# Altium schematic symbol library MonoLine.SCHLIB: 210 symbols (part 1 of 2)
Pins are listed as number, name and electrical type; pins without a type are passive.

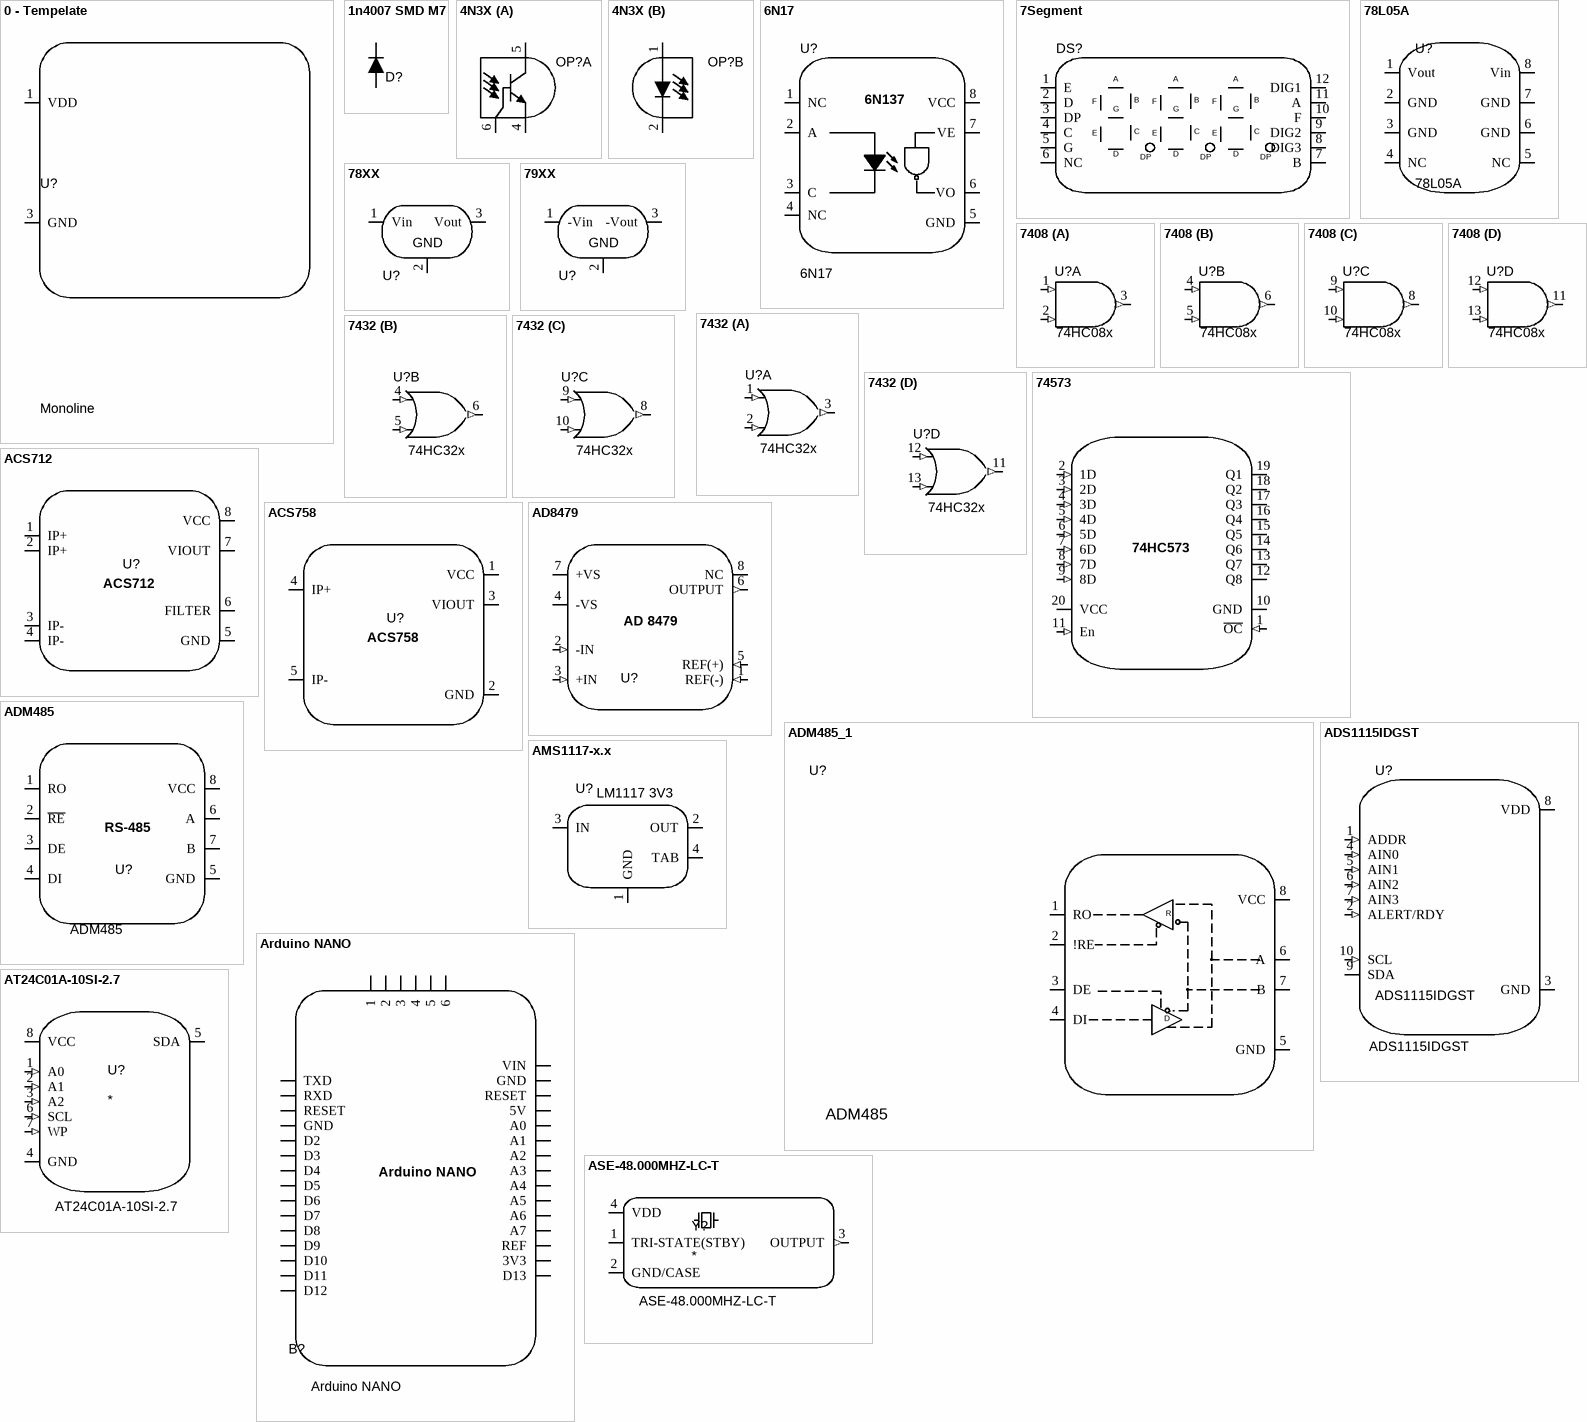
[diagram p0: symbols 0 - Tempelate to AT24C01A-10SI-2.7]

## 0 - Tempelate
designator U?, comment Monoline
MP: ADS1115IDGST; Designer: M Khosravi; Value: *; Price: None; Package: None; Availability: Unavailable
footprint Dip8
pins: 1 VDD (power), 3 GND (power)

## 1n4007 SMD M7
designator D?, comment 1n4007  (value not drawn)
Standard Rectifiers; Designer: M Khosravi
footprint DIOM4629X24N (Molded Diode, 2-Leads, Body 4/60x2/90mm, IPC Medium Density)
footprint SOD80, LL-34 (Diode, MiniMELF)
pins: 1, 2

## 4N3X
designator OP?  (value not drawn)
Optocoupler, Phototransistor Output, with Base Connection / 4N35-X, 4N36-X, 4N37-X, 4N38; ComponentLink2Description: DIP 4pin General Purpose
footprint DIP 6-N (DIP; 6 Leads; Row Spacing 7.62 mm; Pitch 2.54 mm)
part A pins: 4 E, 5 C, 6 B
part B pins: 1 A, 2 K

## 6N17
designator U?
MP: ADS1115IDGST; Value: *; Price: None; Package: None; Availability: Unavailable
pins: 1 NC, 2 A, 3 C, 4 NC, 5 GND, 6 VO, 7 VE, 8 VCC
text: 6N137

## 7Segment
designator DS?
4031BS_CA / 0.4Inch / 3Bit
footprint SN460561N (DS101)
pins: 1 E, 2 D, 3 DP, 4 C, 5 G, 6 NC, 7 B, 8 DIG3, 9 DIG2, 10 F, 11 A, 12 DIG1

## 78L05A
designator U?
footprint SOIC127P600X175-8N
pins: 1 Vout, 2 GND, 3 GND, 4 NC, 5 NC, 6 GND, 7 GND, 8 Vin

## 78XX
designator U?  (value not drawn)
footprint TO-220 AB WITH HEAT SINK (Epoxy meets UL94, V0)
footprint TO-220 AB (Epoxy meets UL94, V0)
footprint TO-220 AB S (Epoxy meets UL94, V0)
footprint TO-220 AB WITH HEAT SINK ASM
footprint TO-220 AB with heatsink ya25 (Epoxy meets UL94, V0-Design:Abbas Basereh)
pins: 1 Vin, 2 GND, 3 Vout
1 alternate drawing of the same symbol

## 79XX
designator U?  (value not drawn)
Linear Voltage Regulator 79XX
footprint TO-220 AB WITH HEAT SINK (Epoxy meets UL94, V0)
footprint TO-220 AB (Epoxy meets UL94, V0)
footprint TO-220 AB S (Epoxy meets UL94, V0)
footprint TO-220 AB WITH HEAT SINK ASM
footprint TO-220 AB with heatsink ya25 (Epoxy meets UL94, V0-Design:Abbas Basereh)
pins: 1 -Vin, 2 GND, 3 -Vout

## 7408
designator U?, comment 74HC08x
Quad 2-Input AND Gate; Temperature Range: -x°C to x°C; PartNumber: 74HC08x
footprint SOIC 14-3.9mm (SOIC, 14-Leads, Body 8.7x3.9mm, Pitch 1.27mm, IPC Medium Density)
footprint DIP_14 (DIP, pitch 2.54mm, 300mil Width)
pins on every part: 7 GND (power) hidden to GND, 14 VDD (power) hidden to VDD
part A pins: 1 A (in), 2 B (in), 3 Y (out)
part B pins: 4 A (in), 5 B (in), 6 Y (out)
part C pins: 8 Y (out), 9 A (in), 10 B (in)
part D pins: 11 Y (out), 12 A (in), 13 B (in)

## 7432
designator U?, comment 74HC32x
Quad 2-Input OR Gate; Temperature Range: -x°C to x°C; PartNumber: 74HC32x
footprint DIP_14 (DIP, pitch 2.54mm, 300mil Width)
footprint SOIC 14-3.9mm (SOIC, 14-Leads, Body 8.7x3.9mm, Pitch 1.27mm, IPC Medium Density)
pins on every part: 7 GND (power) hidden to GND, 14 VDD (power) hidden to VDD
part A pins: 1 A (in), 2 B (in), 3 Y (out)
part B pins: 4 A (in), 5 B (in), 6 Y (out)
part C pins: 8 Y (out), 9 A (in), 10 B (in)
part D pins: 11 Y (out), 12 A (in), 13 B (in)

## 74573
designator U?, comment 74HC573  (value not drawn)
OCTAL D-TYPE TRANSPARENT LCHtch; Temperature Range: -x°C to x°C; PartNumber: 74HC573
footprint DIP_20 (DIP, pitch 2.54mm, 300mil Width)
footprint TSSOP 20 (Shrink Small Outline; 20 Leads; Body Width 4.4 mm; Pitch 0.65 mm)
pins: 1 ~{OC} (in), 2 1D (in), 3 2D (in), 4 3D (in), 5 4D (in), 6 5D (in), 7 6D (in), 8 7D (in), 9 8D (in), 10 GND (hiz), 11 En (in), 12 Q8 (hiz), 13 Q7 (hiz), 14 Q6 (hiz), 15 Q5 (hiz), 16 Q4 (hiz), 17 Q3 (hiz), 18 Q2 (hiz), 19 Q1 (hiz), 20 VCC (hiz)

## ACS712
designator U?, comment ACS 712  (value not drawn)
Hall Effect_Current Sensor; Temperature Range: -x°C to x°C; PartNumber: ACS 712
footprint SOIC8 (SOIC, 8-Leads, Body 4.9x3.9mm, Pitch 1.27mm, IPC Medium Density)
pins: 1 IP+, 2 IP+, 3 IP-, 4 IP-, 5 GND, 6 FILTER, 7 VIOUT, 8 VCC

## ACS758
designator U?
Hall Effect_Current Sensor; Temperature Range: -x°C to x°C
footprint ACS758
pins: 1 VCC, 2 GND, 3 VIOUT, 4 IP+, 5 IP-

## AD8479
designator U?, comment AD 8479  (value not drawn)
Integrated Circuit; Temperature Range: -x°C to x°C; PartNumber: AD 8479
footprint SOIC8 (SOIC, 8-Leads, Body 4.9x3.9mm, Pitch 1.27mm, IPC Medium Density)
pins: 1 REF(-) (in), 2 -IN (in), 3 +IN (in), 4 -VS (power), 5 REF(+) (in), 6 OUTPUT (out), 7 +VS (power), 8 NC

## ADM485
designator U?
Low-Power, Slew-Rate-Limited RS-485/RS-422 Transceiver; Temperature Range: -x°C to x°C; PartNumber: ADM485
footprint DIP8
footprint SOIC8 (SOIC, 8-Leads, Body 4.9x3.9mm, Pitch 1.27mm, IPC Medium Density)
pins: 1 RO, 2 ~{RE}, 3 DE, 4 DI, 5 GND, 6 A, 7 B, 8 VCC
text: RS-485

## ADM485_1
designator U?, comment ADM485
RS-485/RS-422 Transceivers; ComponentAuthor: M khosravi; ComponentLink1Description: Datasheet; ComponentLink1URL: http://pdfserv.maxim-ic.com/en/ds/MAX220-MAX249.pdf
footprint DIP16
footprint SO16 (SOIC, 16-Leads, Body 9.9x3.9mm, Pitch 1.27mm, IPC Medium Density)
footprint NSO16_L (SOIC, 16-Leads, Body 9.9x3.9mm, Pitch 1.27mm, IPC High Density)
footprint NSO16_M (SOIC, 16-Leads, Body 9.9x3.9mm, Pitch 1.27mm, IPC Low Density)
footprint NSO16_N (SOIC, 16-Leads, Body 9.9x3.9mm, Pitch 1.27mm, IPC Medium Density)
pins: 1 RO, 2 !RE, 3 DE, 4 DI, 5 GND (power), 6 A, 7 B, 8 VCC (power)
text: R; D

## ADS1115IDGST
designator U?
MP: ADS1115IDGST; Price: None; Package: None; Availability: Unavailable; Value: ADS1115IDGST
footprint SOP50P490X110-10N
pins: 1 ADDR (in), 2 ALERT/RDY (in), 3 GND (power), 4 AIN0 (in), 5 AIN1 (in), 6 AIN2 (in), 7 AIN3 (in), 8 VDD (power), 9 SDA (io), 10 SCL (in)

## AMS1117-x.x
designator U?, comment LM1117 3V3
x.x Volt, 800mA Low-Dropout Linear Regulator, 4-pin SOT-223; Designer: M Khosravi; Value: LM1117 3V3
footprint SOT223 (SOT223, 4-Leads, Body 6.5x3.5mm, Pitch 2.30mm-Designer Abbas Basereh)
footprint SOT223_L (SOT223, 4-Leads, Body 6.5x3.5mm, Pitch 2.3mm, Lead Span 7mm, IPC High Density)
footprint SOT223_M (SOT223, 4-Leads, Body 6.5x3.5mm, Pitch 2.3mm, Lead Span 7mm, IPC Low Density)
footprint SOT223_N (SOT223, 4-Leads, Body 6.5x3.5mm, Pitch 2.3mm, Lead Span 7mm, IPC Medium Density)
pins: 1 GND (power), 2 OUT (power), 3 IN (power), 4 TAB (power)

## Arduino NANO
designator B?
Embeded Board; Temperature Range: -x°C to x°C; PartNumber: Arduino NANO
footprint Arduino NANO
pins: 1, 2, 3, 3V3, 4, 5, 5V, 6, A0, A1, A2, A3, A4, A5, A6, A7, D2, D3, D4, D5, D6, D7, D8, D9, D10, D11, D12, D13, GND, GND1 GND, REF, RST RESET, RST1 RESET, RXD, TXD, VIN

## ASE-48.000MHZ-LC-T
designator Y?  value ASE-48.000MHZ-LC-T
Price: None; Package: None; Availability: Unavailable; MP: ASE-48.000MHZ-LC-T; PartNumber: ASE-48.000MHZ-LC-T
footprint XTAL_ASE-48.000MHZ-LC-T
pins: 1 TRI-STATE(STBY), 2 GND/CASE (power), 3 OUTPUT (out), 4 VDD (power)

## AT24C01A-10SI-2.7
designator U?  value AT24C01A-10SI-2.7
Two-wire Serial EEPROM; Package: None; Price: None; MP: AT24C01A-10SI-2.7; Availability: Unavailable
footprint SOIC127P600X175-8N
pins: 1 A0 (in), 2 A1 (in), 3 A2 (in), 4 GND, 5 SDA (io), 6 SCL (in), 7 WP (in), 8 VCC (power)

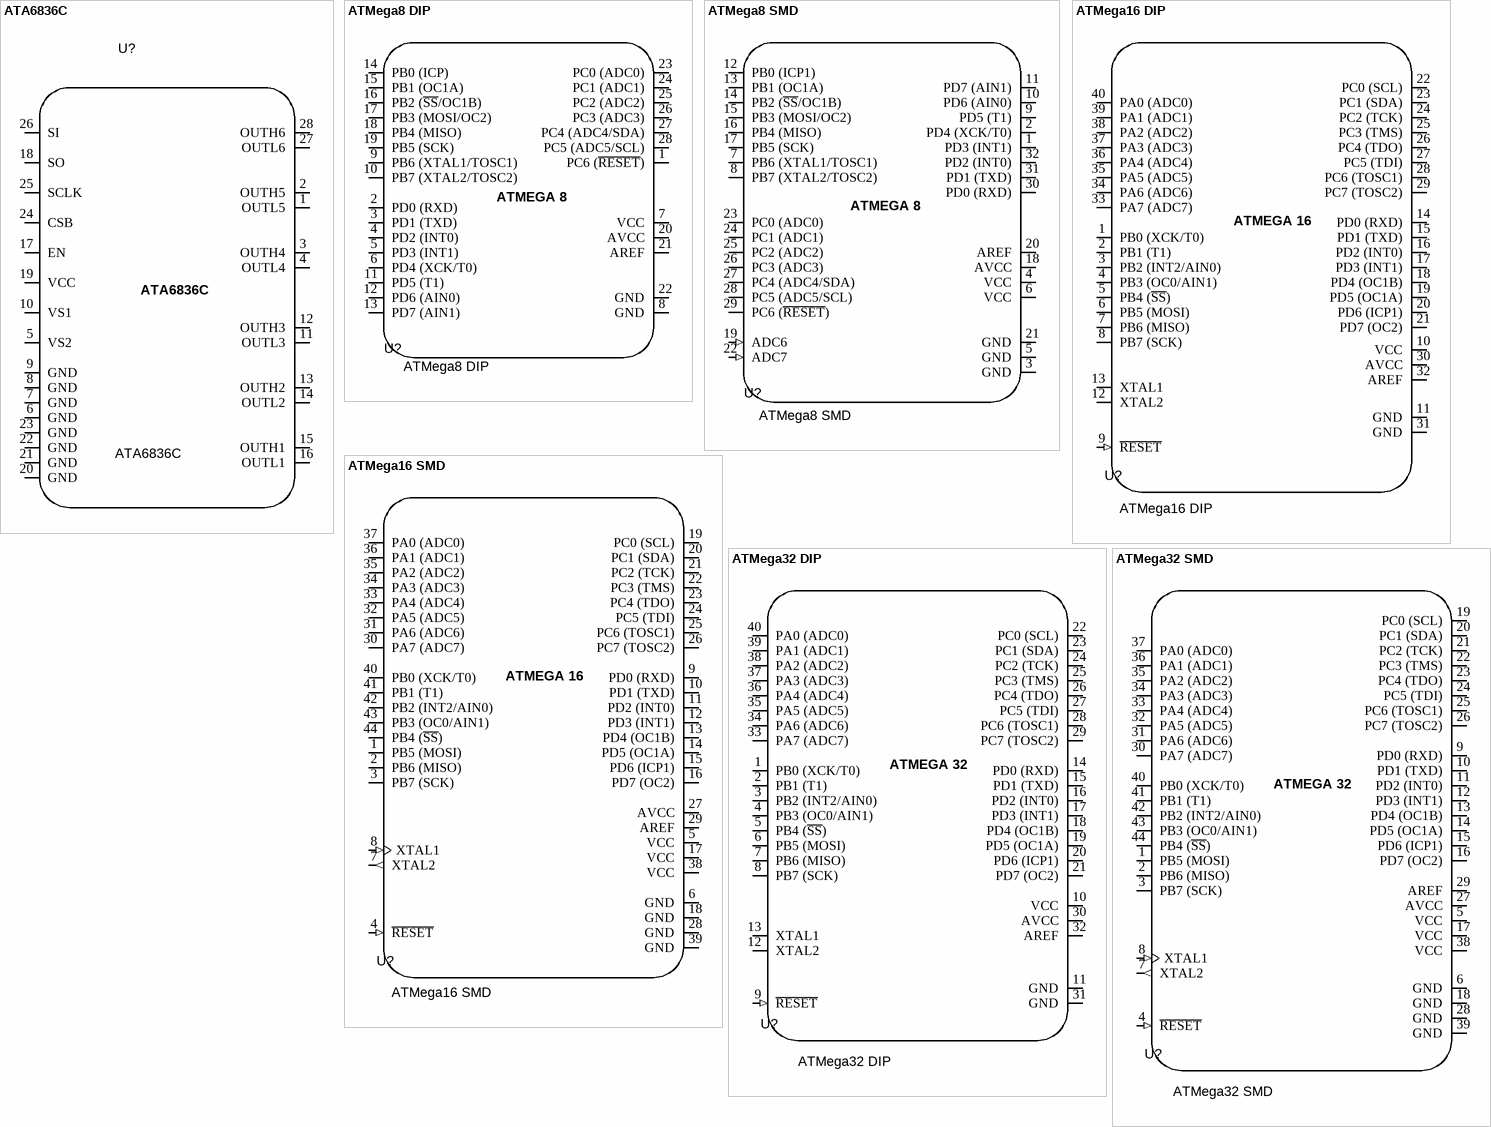
[diagram p1: symbols ATA6836C to ATMega32 SMD]

## ATA6836C
designator U?
Hex Half-bridge Driver with Serial Input Control; Specification: ATA6836C Hex Half-bridge Driver with Serial Input Control; SMD Code: ATA6836C; Temperature Range: -40°C to 150°C; Package: SOIC 28-7.5MM; PartNumber: ATA6836C
footprint SOIC 28-7.5MM (SOIC, 28-Leads, Body 17.9x7.5mm, Pitch 1.27mm, IPC Medium Density)
pins: 1 OUTL5, 2 OUTH5, 3 OUTH4, 4 OUTL4, 5 VS2, 6 GND, 7 GND, 8 GND, 9 GND, 10 VS1, 11 OUTL3, 12 OUTH3, 13 OUTH2, 14 OUTL2, 15 OUTH1, 16 OUTL1, 17 EN, 18 SO, 19 VCC, 20 GND, 21 GND, 22 GND, 23 GND, 24 CSB, 25 SCLK, 26 SI, 27 OUTL6, 28 OUTH6

## ATMega8 DIP
designator U?
8-bit AVR Microcontroller, 8KB Flash, 512 Bytes EEPROM, 1KB SRAM, 28-pin PDIP, Industrial Grade (-40°C to 85°C); Temperature Range: -x°C to x°C; PartNumber: ATMega8 DIP
footprint DIP 28-N (28-Pin Ceramic Dual In-Line Package (CerDIP))
pins: 1 PC6 (~{RESET}) (io), 2 PD0 (RXD) (io), 3 PD1 (TXD) (io), 4 PD2 (INT0) (io), 5 PD3 (INT1) (io), 6 PD4 (XCK/T0) (io), 7 VCC (power), 8 GND (power), 9 PB6 (XTAL1/TOSC1) (io), 10 PB7 (XTAL2/TOSC2) (io), 11 PD5 (T1) (io), 12 PD6 (AIN0) (io), 13 PD7 (AIN1) (io), 14 PB0 (ICP) (io), 15 PB1 (OC1A) (io), 16 PB2 (~{SS}/OC1B) (io), 17 PB3 (MOSI/OC2) (io), 18 PB4 (MISO) (io), 19 PB5 (SCK) (io), 20 AVCC (power), 21 AREF, 22 GND (power), 23 PC0 (ADC0) (io), 24 PC1 (ADC1) (io), 25 PC2 (ADC2) (io), 26 PC3 (ADC3) (io), 27 PC4 (ADC4/SDA) (io), 28 PC5 (ADC5/SCL) (io)
text: ATMEGA 8

## ATMega8 SMD
designator U?
8-bit AVR Microcontroller, 8KB Flash, 512 Bytes EEPROM, 1KB SRAM, 32-pin TQFP, Industrial Grade (-40°C to 85°C); Temperature Range: -x°C to x°C; PartNumber: ATMega8 SMD
footprint TQFP 32-N (32-Pin Thin Quad Flat Pack 0.8 mm Pitch, IPC Medium Density)
pins: 1 PD3 (INT1) (io), 2 PD4 (XCK/T0) (io), 3 GND (power), 4 VCC (power), 5 GND (power), 6 VCC (power), 7 PB6 (XTAL1/TOSC1) (io), 8 PB7 (XTAL2/TOSC2) (io), 9 PD5 (T1) (io), 10 PD6 (AIN0) (io), 11 PD7 (AIN1) (io), 12 PB0 (ICP1) (io), 13 PB1 (OC1A) (io), 14 PB2 (~{SS}/OC1B) (io), 15 PB3 (MOSI/OC2) (io), 16 PB4 (MISO) (io), 17 PB5 (SCK) (io), 18 AVCC (power), 19 ADC6 (in), 20 AREF (power), 21 GND (power), 22 ADC7 (in), 23 PC0 (ADC0) (io), 24 PC1 (ADC1) (io), 25 PC2 (ADC2) (io), 26 PC3 (ADC3) (io), 27 PC4 (ADC4/SDA) (io), 28 PC5 (ADC5/SCL) (io), 29 PC6 (~{RESET}) (io), 30 PD0 (RXD) (io), 31 PD1 (TXD) (io), 32 PD2 (INT0) (io)
text: ATMEGA 8

## ATMega16 DIP
designator U?
8-bit AVR Microcontroller, 16KB Flash, 512 Bytes EEPROM, 1KB SRAM, 40-pin PDIP, Industrial Grade (-40°C to 85°C); Temperature Range: -x°C to x°C; PartNumber: ATMega16 DIP
footprint DIP 40- Microchip
pins: 1 PB0 (XCK/T0) (io), 2 PB1 (T1) (io), 3 PB2 (INT2/AIN0) (io), 4 PB3 (OC0/AIN1) (io), 5 PB4 (~{SS}) (io), 6 PB5 (MOSI) (io), 7 PB6 (MISO) (io), 8 PB7 (SCK) (io), 9 ~{RESET} (in), 10 VCC (power), 11 GND (power), 12 XTAL2, 13 XTAL1, 14 PD0 (RXD) (io), 15 PD1 (TXD) (io), 16 PD2 (INT0) (io), 17 PD3 (INT1) (io), 18 PD4 (OC1B) (io), 19 PD5 (OC1A) (io), 20 PD6 (ICP1) (io), 21 PD7 (OC2) (io), 22 PC0 (SCL) (io), 23 PC1 (SDA) (io), 24 PC2 (TCK) (io), 25 PC3 (TMS) (io), 26 PC4 (TDO) (io), 27 PC5 (TDI) (io), 28 PC6 (TOSC1) (io), 29 PC7 (TOSC2) (io), 30 AVCC (power), 31 GND (power), 32 AREF (power), 33 PA7 (ADC7) (io), 34 PA6 (ADC6) (io), 35 PA5 (ADC5) (io), 36 PA4 (ADC4) (io), 37 PA3 (ADC3) (io), 38 PA2 (ADC2) (io), 39 PA1 (ADC1) (io), 40 PA0 (ADC0) (io)
text: ATMEGA 16

## ATMega16 SMD
designator U?
8-bit AVR Microcontroller, 16KB Flash, 512 Bytes EEPROM, 1KB SRAM, 44-pin TQFP, Industrial Grade (-40°C to 85°C); Temperature Range: -x°C to x°C; PartNumber: ATMega16 SMD
footprint TQFP 44-N (44-Pin Thin Quad Flat Pack 0.8 mm Pitch, IPC Medium Density)
pins: 1 PB5 (MOSI) (io), 2 PB6 (MISO) (io), 3 PB7 (SCK) (io), 4 ~{RESET} (in), 5 VCC (power), 6 GND (power), 7 XTAL2 (out), 8 XTAL1 (in), 9 PD0 (RXD) (io), 10 PD1 (TXD) (io), 11 PD2 (INT0) (io), 12 PD3 (INT1) (io), 13 PD4 (OC1B) (io), 14 PD5 (OC1A) (io), 15 PD6 (ICP1) (io), 16 PD7 (OC2) (io), 17 VCC (power), 18 GND (power), 19 PC0 (SCL) (io), 20 PC1 (SDA) (io), 21 PC2 (TCK) (io), 22 PC3 (TMS) (io), 23 PC4 (TDO) (io), 24 PC5 (TDI) (io), 25 PC6 (TOSC1) (io), 26 PC7 (TOSC2) (io), 27 AVCC (power), 28 GND (power), 29 AREF (power), 30 PA7 (ADC7) (io), 31 PA6 (ADC6) (io), 32 PA5 (ADC5) (io), 33 PA4 (ADC4) (io), 34 PA3 (ADC3) (io), 35 PA2 (ADC2) (io), 36 PA1 (ADC1) (io), 37 PA0 (ADC0) (io), 38 VCC (power), 39 GND (power), 40 PB0 (XCK/T0) (io), 41 PB1 (T1) (io), 42 PB2 (INT2/AIN0) (io), 43 PB3 (OC0/AIN1) (io), 44 PB4 (~{SS}) (io)
text: ATMEGA 16

## ATMega32 DIP
designator U?
8-bit AVR Microcontroller, 32KB Flash, 1KB EEPROM, 2KB SRAM, 40-pin PDIP, Industrial Grade (-40°C to 85°C); Temperature Range: -x°C to x°C; PartNumber: ATMega32 DIP
footprint DIP 40- Microchip
pins: 1 PB0 (XCK/T0) (io), 2 PB1 (T1) (io), 3 PB2 (INT2/AIN0) (io), 4 PB3 (OC0/AIN1) (io), 5 PB4 (~{SS}) (io), 6 PB5 (MOSI) (io), 7 PB6 (MISO) (io), 8 PB7 (SCK) (io), 9 ~{RESET} (in), 10 VCC (power), 11 GND (power), 12 XTAL2, 13 XTAL1, 14 PD0 (RXD) (io), 15 PD1 (TXD) (io), 16 PD2 (INT0) (io), 17 PD3 (INT1) (io), 18 PD4 (OC1B) (io), 19 PD5 (OC1A) (io), 20 PD6 (ICP1) (io), 21 PD7 (OC2) (io), 22 PC0 (SCL) (io), 23 PC1 (SDA) (io), 24 PC2 (TCK) (io), 25 PC3 (TMS) (io), 26 PC4 (TDO) (io), 27 PC5 (TDI) (io), 28 PC6 (TOSC1) (io), 29 PC7 (TOSC2) (io), 30 AVCC (power), 31 GND (power), 32 AREF (power), 33 PA7 (ADC7) (io), 34 PA6 (ADC6) (io), 35 PA5 (ADC5) (io), 36 PA4 (ADC4) (io), 37 PA3 (ADC3) (io), 38 PA2 (ADC2) (io), 39 PA1 (ADC1) (io), 40 PA0 (ADC0) (io)
text: ATMEGA 32

## ATMega32 SMD
designator U?
8-bit AVR Microcontroller, 32KB Flash, 1KB EEPROM, 2KB SRAM, 44-pin TQFP, Industrial Grade (-40°C to 85°C); Temperature Range: -x°C to x°C; PartNumber: ATMega32 SMD
footprint TQFP 44-N (44-Pin Thin Quad Flat Pack 0.8 mm Pitch, IPC Medium Density)
pins: 1 PB5 (MOSI) (io), 2 PB6 (MISO) (io), 3 PB7 (SCK) (io), 4 ~{RESET} (in), 5 VCC (power), 6 GND (power), 7 XTAL2 (out), 8 XTAL1 (in), 9 PD0 (RXD) (io), 10 PD1 (TXD) (io), 11 PD2 (INT0) (io), 12 PD3 (INT1) (io), 13 PD4 (OC1B) (io), 14 PD5 (OC1A) (io), 15 PD6 (ICP1) (io), 16 PD7 (OC2) (io), 17 VCC (power), 18 GND (power), 19 PC0 (SCL) (io), 20 PC1 (SDA) (io), 21 PC2 (TCK) (io), 22 PC3 (TMS) (io), 23 PC4 (TDO) (io), 24 PC5 (TDI) (io), 25 PC6 (TOSC1) (io), 26 PC7 (TOSC2) (io), 27 AVCC (power), 28 GND (power), 29 AREF (power), 30 PA7 (ADC7) (io), 31 PA6 (ADC6) (io), 32 PA5 (ADC5) (io), 33 PA4 (ADC4) (io), 34 PA3 (ADC3) (io), 35 PA2 (ADC2) (io), 36 PA1 (ADC1) (io), 37 PA0 (ADC0) (io), 38 VCC (power), 39 GND (power), 40 PB0 (XCK/T0) (io), 41 PB1 (T1) (io), 42 PB2 (INT2/AIN0) (io), 43 PB3 (OC0/AIN1) (io), 44 PB4 (~{SS}) (io)
text: ATMEGA 32

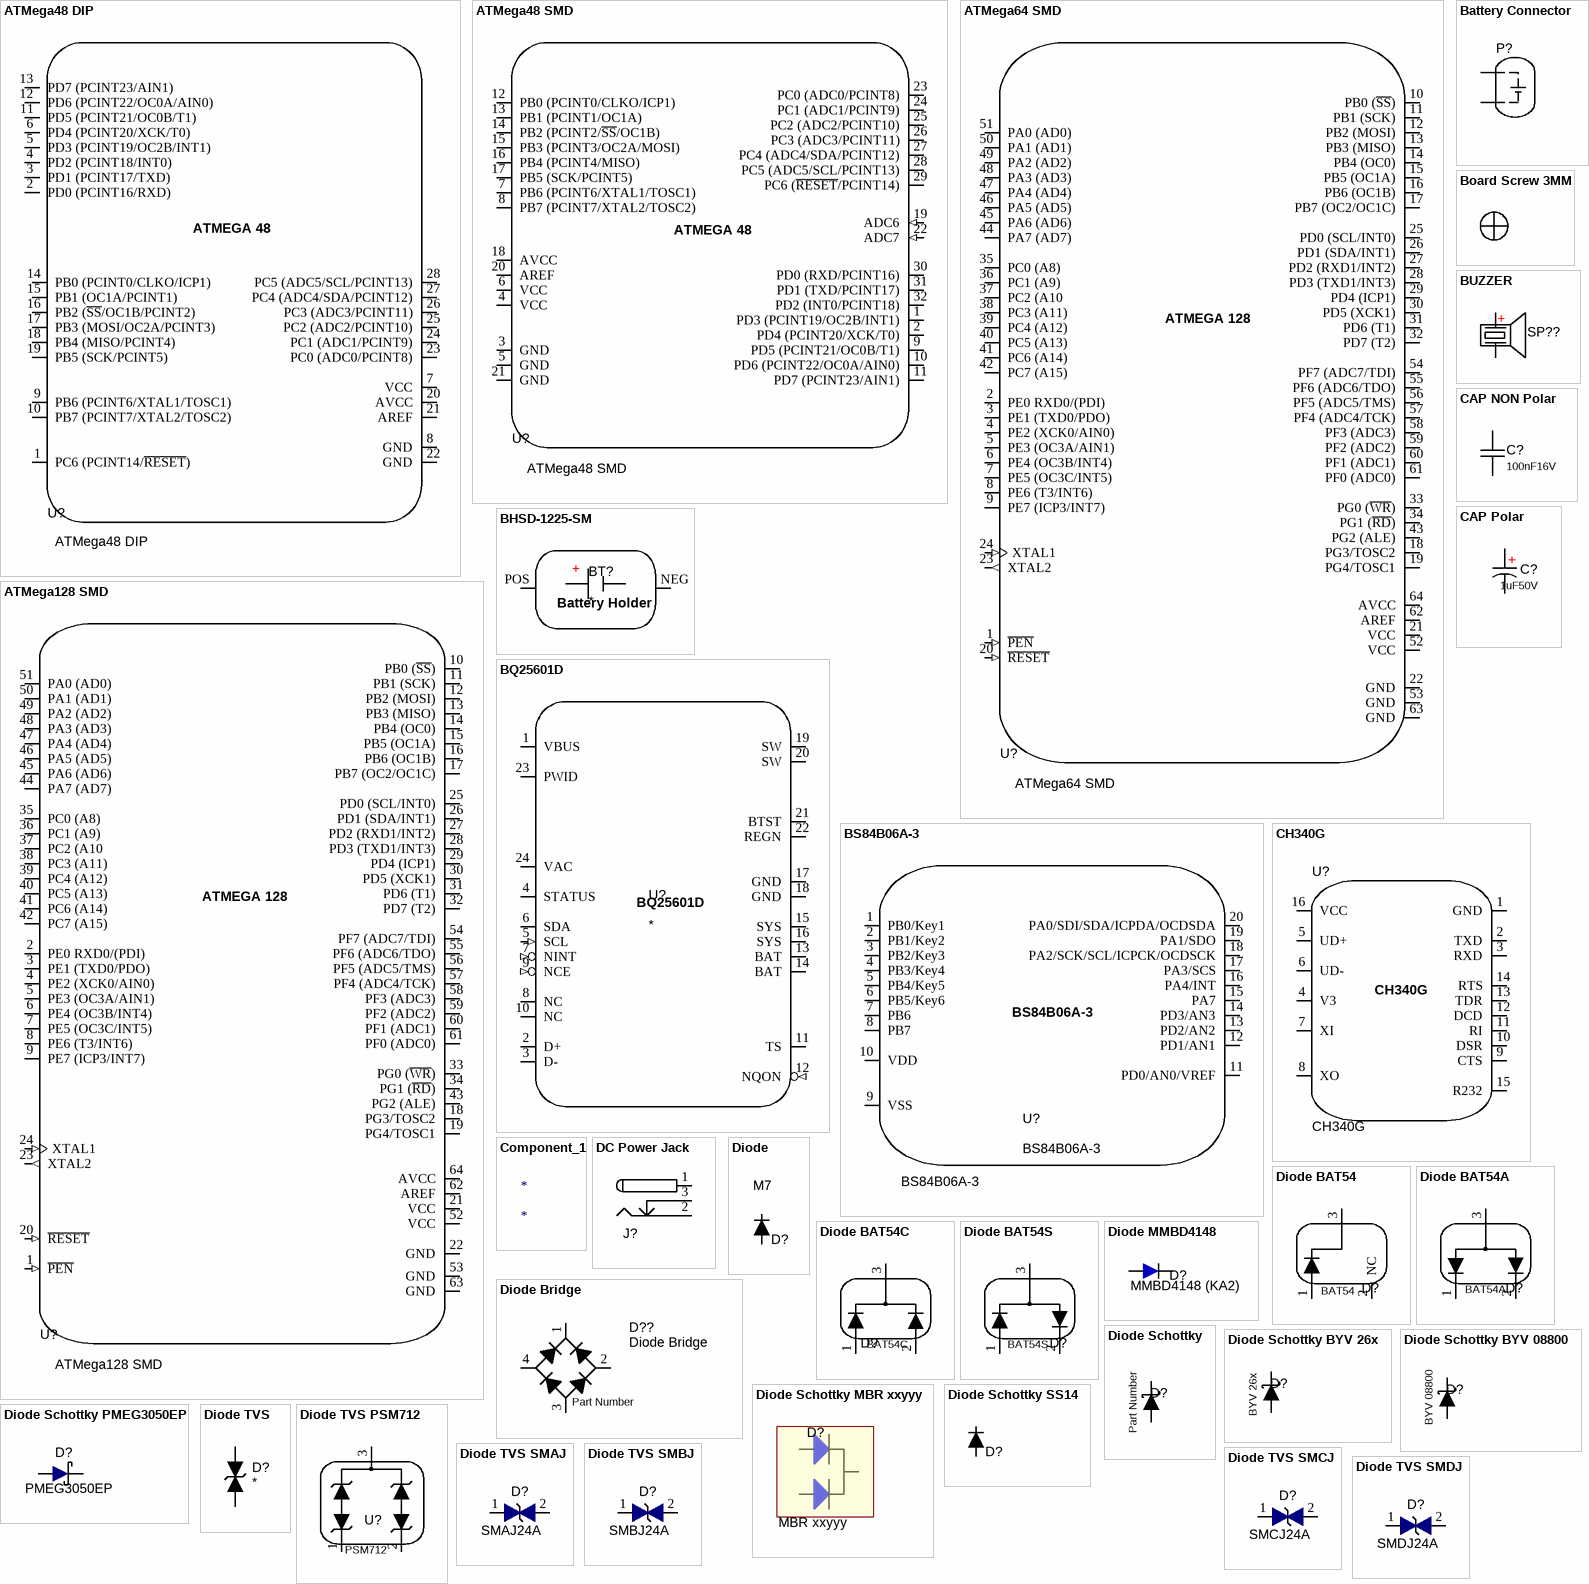
[diagram p2: symbols ATMega48 DIP to Diode TVS SMDJ]

## ATMega48 DIP
designator U?
8-bit AVR Microcontroller, 4KB Flash, 256 Bytes EEPROM, 512 Bytes SRAM, 28-pin PDIP, Industrial Grade (-40°C to 85°C); Temperature Range: -x°C to x°C; PartNumber: ATMega48 DIP
footprint DIP 28-W (DIP; 28 Leads; Row Spacing 15.24 mm; Pitch 2.54 mm)
pins: 1 PC6 (PCINT14/~{RESET}) (io), 2 PD0 (PCINT16/RXD) (io), 3 PD1 (PCINT17/TXD) (io), 4 PD2 (PCINT18/INT0) (io), 5 PD3 (PCINT19/OC2B/INT1) (io), 6 PD4 (PCINT20/XCK/T0) (io), 7 VCC (power), 8 GND (power), 9 PB6 (PCINT6/XTAL1/TOSC1) (io), 10 PB7 (PCINT7/XTAL2/TOSC2) (io), 11 PD5 (PCINT21/OC0B/T1) (io), 12 PD6 (PCINT22/OC0A/AIN0) (io), 13 PD7 (PCINT23/AIN1) (io), 14 PB0 (PCINT0/CLKO/ICP1) (io), 15 PB1 (OC1A/PCINT1) (io), 16 PB2 (~{SS}/OC1B/PCINT2) (io), 17 PB3 (MOSI/OC2A/PCINT3) (io), 18 PB4 (MISO/PCINT4) (io), 19 PB5 (SCK/PCINT5) (io), 20 AVCC (power), 21 AREF (power), 22 GND (power), 23 PC0 (ADC0/PCINT8) (io), 24 PC1 (ADC1/PCINT9) (io), 25 PC2 (ADC2/PCINT10) (io), 26 PC3 (ADC3/PCINT11) (io), 27 PC4 (ADC4/SDA/PCINT12) (io), 28 PC5 (ADC5/SCL/PCINT13) (io)
text: ATMEGA 48

## ATMega48 SMD
designator U?
8-bit AVR Microcontroller, 4KB Flash, 256 Bytes EEPROM, 512 Bytes SRAM, 32-pin TQFP, Industrial Grade (-40°C to 85°C); Temperature Range: -x°C to x°C; PartNumber: ATMega48 SMD
footprint TQFP 32-N (32-Pin Thin Quad Flat Pack 0.8 mm Pitch, IPC Medium Density)
pins: 1 PD3 (PCINT19/OC2B/INT1) (io), 2 PD4 (PCINT20/XCK/T0) (io), 3 GND (power), 4 VCC (power), 5 GND (power), 6 VCC (power), 7 PB6 (PCINT6/XTAL1/TOSC1) (io), 8 PB7 (PCINT7/XTAL2/TOSC2) (io), 9 PD5 (PCINT21/OC0B/T1) (io), 10 PD6 (PCINT22/OC0A/AIN0) (io), 11 PD7 (PCINT23/AIN1) (io), 12 PB0 (PCINT0/CLKO/ICP1) (io), 13 PB1 (PCINT1/OC1A) (io), 14 PB2 (PCINT2/~{SS}/OC1B) (io), 15 PB3 (PCINT3/OC2A/MOSI) (io), 16 PB4 (PCINT4/MISO) (io), 17 PB5 (SCK/PCINT5) (io), 18 AVCC (power), 19 ADC6 (in), 20 AREF, 21 GND (power), 22 ADC7 (in), 23 PC0 (ADC0/PCINT8) (io), 24 PC1 (ADC1/PCINT9) (io), 25 PC2 (ADC2/PCINT10) (io), 26 PC3 (ADC3/PCINT11) (io), 27 PC4 (ADC4/SDA/PCINT12) (io), 28 PC5 (ADC5/SCL/PCINT13) (io), 29 PC6 (~{RESET}/PCINT14) (io), 30 PD0 (RXD/PCINT16) (io), 31 PD1 (TXD/PCINT17) (io), 32 PD2 (INT0/PCINT18) (io)
text: ATMEGA 48

## ATMega64 SMD
designator U?
8-bit AVR Microcontroller, 64KB Flash, 2KB EEPROM, 4KB SRAM, 64-pin TQFP, Industrial Grade (-40°C to 85°C); Temperature Range: -x°C to x°C; PartNumber: ATMega64 SMD
footprint TQFP 64-N (64-Pin Thin Quad Flat Pack 0.8 mm Pitch, IPC Medium Density)
pins: 1 ~{PEN} (in), 2 PE0 RXD0/(PDI) (io), 3 PE1 (TXD0/PDO) (io), 4 PE2 (XCK0/AIN0) (io), 5 PE3 (OC3A/AIN1) (io), 6 PE4 (OC3B/INT4) (io), 7 PE5 (OC3C/INT5) (io), 8 PE6 (T3/INT6) (io), 9 PE7 (ICP3/INT7) (io), 10 PB0 (~{SS}) (io), 11 PB1 (SCK) (io), 12 PB2 (MOSI) (io), 13 PB3 (MISO) (io), 14 PB4 (OC0) (io), 15 PB5 (OC1A) (io), 16 PB6 (OC1B) (io), 17 PB7 (OC2/OC1C) (io), 18 PG3/TOSC2 (io), 19 PG4/TOSC1 (io), 20 ~{RESET} (in), 21 VCC (power), 22 GND (power), 23 XTAL2 (out), 24 XTAL1 (in), 25 PD0 (SCL/INT0) (io), 26 PD1 (SDA/INT1) (io), 27 PD2 (RXD1/INT2) (io), 28 PD3 (TXD1/INT3) (io), 29 PD4 (ICP1) (io), 30 PD5 (XCK1) (io), 31 PD6 (T1) (io), 32 PD7 (T2) (io), 33 PG0 (~{WR}) (io), 34 PG1 (~{RD}) (io), 35 PC0 (A8) (io), 36 PC1 (A9) (io), 37 PC2 (A10 (io), 38 PC3 (A11) (io), 39 PC4 (A12) (io), 40 PC5 (A13) (io), 41 PC6 (A14) (io), 42 PC7 (A15) (io), 43 PG2 (ALE) (io), 44 PA7 (AD7) (io), 45 PA6 (AD6) (io), 46 PA5 (AD5) (io), 47 PA4 (AD4) (io), 48 PA3 (AD3) (io), 49 PA2 (AD2) (io), 50 PA1 (AD1) (io), 51 PA0 (AD0) (io), 52 VCC (power), 53 GND (power), 54 PF7 (ADC7/TDI) (io), 55 PF6 (ADC6/TDO) (io), 56 PF5 (ADC5/TMS) (io), 57 PF4 (ADC4/TCK) (io), 58 PF3 (ADC3) (io), 59 PF2 (ADC2) (io), 60 PF1 (ADC1) (io), 61 PF0 (ADC0) (io), 62 AREF (power), 63 GND (power), 64 AVCC (power)
text: ATMEGA 128

## ATMega128 SMD
designator U?
8-bit AVR Microcontroller, 128KB Flash, 4KB EEPROM, 4KB SRAM, 64-pin TQFP, Industrial Grade (-40°C to 85°C); Temperature Range: -x°C to x°C; PartNumber: ATMega128 SMD
footprint TQFP 64-N (64-Pin Thin Quad Flat Pack 0.8 mm Pitch, IPC Medium Density)
pins: 1 ~{PEN} (in), 2 PE0 RXD0/(PDI) (io), 3 PE1 (TXD0/PDO) (io), 4 PE2 (XCK0/AIN0) (io), 5 PE3 (OC3A/AIN1) (io), 6 PE4 (OC3B/INT4) (io), 7 PE5 (OC3C/INT5) (io), 8 PE6 (T3/INT6) (io), 9 PE7 (ICP3/INT7) (io), 10 PB0 (~{SS}) (io), 11 PB1 (SCK) (io), 12 PB2 (MOSI) (io), 13 PB3 (MISO) (io), 14 PB4 (OC0) (io), 15 PB5 (OC1A) (io), 16 PB6 (OC1B) (io), 17 PB7 (OC2/OC1C) (io), 18 PG3/TOSC2 (io), 19 PG4/TOSC1 (io), 20 ~{RESET} (in), 21 VCC (power), 22 GND (power), 23 XTAL2 (out), 24 XTAL1 (in), 25 PD0 (SCL/INT0) (io), 26 PD1 (SDA/INT1) (io), 27 PD2 (RXD1/INT2) (io), 28 PD3 (TXD1/INT3) (io), 29 PD4 (ICP1) (io), 30 PD5 (XCK1) (io), 31 PD6 (T1) (io), 32 PD7 (T2) (io), 33 PG0 (~{WR}) (io), 34 PG1 (~{RD}) (io), 35 PC0 (A8) (io), 36 PC1 (A9) (io), 37 PC2 (A10 (io), 38 PC3 (A11) (io), 39 PC4 (A12) (io), 40 PC5 (A13) (io), 41 PC6 (A14) (io), 42 PC7 (A15) (io), 43 PG2 (ALE) (io), 44 PA7 (AD7) (io), 45 PA6 (AD6) (io), 46 PA5 (AD5) (io), 47 PA4 (AD4) (io), 48 PA3 (AD3) (io), 49 PA2 (AD2) (io), 50 PA1 (AD1) (io), 51 PA0 (AD0) (io), 52 VCC (power), 53 GND (power), 54 PF7 (ADC7/TDI) (io), 55 PF6 (ADC6/TDO) (io), 56 PF5 (ADC5/TMS) (io), 57 PF4 (ADC4/TCK) (io), 58 PF3 (ADC3) (io), 59 PF2 (ADC2) (io), 60 PF1 (ADC1) (io), 61 PF0 (ADC0) (io), 62 AREF (power), 63 GND (power), 64 AVCC (power)
text: ATMEGA 128

## Battery Connector
designator P?
Value: 1 Cell 18650
footprint HDR1X2 (Connector; Header; 2 Position)
pins: 1, 2

## BHSD-1225-SM
designator BT?
Battery Holder (Open, Cover Required) Coin, 12.0mm 1 Cell SMD (SMT) Tab; MF: MPD (Memory; MP: BHSD-1225-SM; SnapEDA_Link: https://www.snapeda.com/parts/BHSD-1225-SM/MPD/view-part/?ref=snap; Package: TSSOP-20 MPD; Value: *; Check_prices: https://www.snapeda.com/parts/BHSD-1225-SM/MPD/view-part/?ref=eda
footprint BAT_BHSD-1225-SM
pins: NEG, POS
text: +; Battery Holder

## Board Screw 3MM
designator M?, comment Screw  (value not drawn)
Board Screw With Spacer
footprint Board Screw
footprint Board Screw 3mm

## BQ25601D
designator U?
I2C controlled single cell 3-A battery charger with high input voltage, Power Path, and D+/D- 24-WQFN -40 to 85; MF: Texas Instruments; MP: BQ25601RTWT; Package: WQFN-24 Texas Instruments; Value: *; Price: None; Availability: Unavailable; SnapEDA_Link: https://www.snapeda.com/parts/BQ25601RTWT/Texas%20Instruments/view-part/1241174/?ref=snap; Purchase-URL: https://pricing.snapeda.com/search/part/BQ25601RTWT/?ref=eda
footprint QFN50P400X400X80-25N
pins: 1 VBUS (power), 2 D+ (io), 3 D- (io), 4 STATUS, 5 SCL (in), 6 SDA (io), 7 NINT (in), 8 NC, 9 NCE (in), 10 NC, 11 TS, 12 NQON (in), 13 BAT, 14 BAT, 15 SYS, 16 SYS, 17 GND, 18 GND, 19 SW, 20 SW, 21 BTST, 22 REGN, 23 PWID, 24 VAC

## BS84B06A-3
designator U?
Touch A/D Flash MCU / BS84B06A-3; PartNumber: BS84B06A-3
footprint SO20_WIDE_M (20-Pin Small Outline Package (SO20), IPC Low Density)
pins: 1 PB0/Key1, 2 PB1/Key2, 3 PB2/Key3, 4 PB3/Key4, 5 PB4/Key5, 6 PB5/Key6, 7 PB6, 8 PB7, 9 VSS, 10 VDD, 11 PD0/AN0/VREF, 12 PD1/AN1, 13 PD2/AN2, 14 PD3/AN3, 15 PA7, 16 PA4/INT, 17 PA3/SCS, 18 PA2/SCK/SCL/ICPCK/OCDSCK, 19 PA1/SDO, 20 PA0/SDI/SDA/ICPDA/OCDSDA

## BUZZER
designator SP??
PIEZO BUZZER ACTIVE; Designer: M Khosravi; Design Date: 1395/11/14; ComponentLink2Description: Reference; PackageDescription: THD; Publisher: M Khosravi; Mounting Technology: THD; Pin Count: 2; Status: Unreleased
footprint BUZZER 7.62mm DC (BUZZER 12mm DIA , 7.62mm pitch DESIGNER ABBAS BASEREH)
pins: 1 +, 2 -

## CAP NON Polar
designator C?, comment 100nF16V
NON Polar Capacitor SMD/DIP Ceramic , Multilayer ,MKT ,...; Designer: M Khosravi; VALUE: 100nF; Voltage: 16V
signal-integrity model CAP SMD (CAP SMD PACK)
footprint CAP0201 (Chip Capacitor, 2-Leads, Body 0/60x0/30mm, IPC Medium Density DESIGNER:ABBAS BASEREH)
footprint CAP0402 (Chip Capacitor, 2-Leads, Body 1/00x0/50mm, IPC Medium Density DESIGNER:ABBAS BASEREH)
footprint CAP0603 (Chip Capacitor, 2-Leads, Body 1/60x0/80mm, IPC Medium Density DESIGNER:ABBAS BASEREH)
footprint CAP0805 (Chip Capacitor, 2-Leads, Body 2/00x1/25mm, IPC Medium Density DESIGNER:ABBAS BASEREH)
footprint CAP1206 (Chip Capacitor, 2-Leads, Body 3/20x1/60mm, IPC Medium Density DESIGNER:ABBAS BASEREH)
footprint CAP1210 (Chip Capacitor, 2-Leads, Body 3/20x2/50mm, IPC Medium Density DESIGNER:ABBAS BASEREH)
footprint CAP1812 (Chip Capacitor, 2-Leads, Body 4/50x3/20mm, IPC Medium Density DESIGNER:ABBAS BASEREH)
footprint CAP2010 (Chip Capacitor, 2-Leads, Body 5/00x2/50mm, IPC Medium Density DESIGNER:ABBAS BASEREH)
footprint CAP2512 (Chip Capacitor, 2-Leads, Body 6/40x3/20mm, IPC Medium Density DESIGNER:ABBAS BASEREH)
footprint Cap402_(1005X05L) (Chip Capacitor, 2-Leads, Body 1.0x0.5mm, IPC High Density)
footprint Cap1206_(3216X15)
footprint Cap1206_(3216X15L) (Chip Capacitor, 2-Leads, Body 3.2x1.6mm, IPC High Density)
footprint Cap1206_(3216X18L)Size A (Chip Capacitor, 2-Leads, Body 3.2x1.6mm, IPC High Density, chip Tantalum)
footprint CAP805
footprint CAPC3413X12N (Chip Capacitor, 2-Leads, Body 3/40x1/30mm, IPC Medium Density-Design:Abbas Basereh)
footprint Cap SMD 100UF 35~50v
footprint CAP SMD 470uF (SMD CAP 470uF)
footprint CAP SMD 1000UF 16V
pins: 1, 2

## CAP Polar
designator C?, comment 1uF50V
Polar Capacitor  SMD/DIP Electrolitic, Tantalium, ...; Value: 1uF; Voltage: 50V
footprint Cap electrolitic radial 10x20-5 (Cap electrolitic radial 10x20-5-Design:Abbas Basereh)
footprint Cap electrolitic radial 8x12-3.5 (Cap electrolitic radial 8x12-3.5-Design:Abbas Basereh)
footprint Cap electrolitic radial 10x16-5 (Cap electrolitic radial 10x16-5-Design:Abbas Basereh)
footprint Cap electrolitic radial 10x25-5 (Cap electrolitic radial 10x25-5-Design:Abbas Basereh)
footprint Cap electrolitic radial 10x30-5 (Cap electrolitic radial 10x30-5-Design:Abbas Basereh)
footprint Cap electrolitic radial 13x25-5 (Cap electrolitic radial 13x25-5-Design:Abbas Basereh)
footprint Cap electrolitic radial 16x26-7.5 (Cap electrolitic radial 16x26-7.5-Design:Abbas Basereh)
footprint Cap electrolitic radial 16x31.5-7.5 (Cap electrolitic radial 16x31.5-7.5-Design:Abbas Basereh)
footprint Cap electrolitic radial 18x26 (Cap electrolitic radial 18x26-Design:Abbas Basereh)
footprint Cap electrolitic radial 18x36-7.5 (Cap electrolitic radial 18x36-7.5-Design:Abbas Basereh)
footprint Cap electrolitic radial 18x40-7.5 (Cap electrolitic radial 18x40-7.5-Design:Abbas Basereh)
footprint Cap electrolitic radial 5x11-2 (Cap electrolitic radial 5x11-2-Design:Abbas Basereh)
footprint Cap electrolitic radial 5x12-2 (Cap electrolitic radial 5x12-2-Design:Abbas Basereh)
footprint Cap electrolitic radial 8x14-3.5 (Cap electrolitic radial 8x14-3.5-Design:Abbas Basereh)
footprint Cap electrolitic radial 6x7-2.5 (Cap electrolitic radial 6x7-2.5-Design:Abbas Basereh)
footprint Cap electrolitic radial 4x7-1.5 (Cap electrolitic radial 5x11-2-Design:Ali Hafizi)
footprint Cap electrolitic radial 6.3x12-2.5 (Capacitor Electrolytic D=6.3 x H=12 - P=2.5 mm, Altium Compatible)
footprint Cap electrolitic radial 8MM (Cap electrolitic radial 8MM-Design:Ali Hafizi)
footprint Cap electrolitic radial 8x11.5-3.5 (Cap electrolitic radial 8x11.5-3.5-Design:Ali Hafizi)
footprint Cap electrolitic radial 12.5x20-5 (Cap electrolitic radial 12.5x20-5-Design:Abbas Basereh)
footprint Cap electrolitic radial 12.5x25-5 (Cap electrolitic radial 12.5x25-5-Design:Abbas Basereh)
footprint Cap electrolitic radial 12.5x21.5-5 (Cap electrolitic radial 12.5x21.5-5-Design:Ali Hafizi)
footprint Cap1206_(3216X18L)Size A (Chip Capacitor, 2-Leads, Body 3.2x1.6mm, IPC High Density, chip Tantalum)
footprint Cap SMD 100UF 35~50v
footprint CAP SMD 470uF (SMD CAP 470uF)
footprint CAP SMD 1000UF 16V
footprint CAPP 1206 (3216X18L) Size A (Chip Capacitor, 2-Leads, Body 3.2x1.6mm, IPC High Density, chip Tantalum)
footprint CAP 5 (Footprint not found)
footprint CaseA (3*5.4) (Electrolytic Capacitor SMD Case)
footprint CaseB(4*5.4) (Electrolytic Capacitor SMD Case)
footprint CaseC(5*5.4) (Electrolytic Capacitor SMD Case)
footprint CaseD(6.3*5.4) (Electrolytic Capacitor SMD Case)
footprint CaseE(8*6.2) (Electrolytic Capacitor SMD Case)
footprint CaseG(10*10.2) (Electrolytic Capacitor SMD Case)
footprint CT_1411 (3216_CaseA)
footprint CT_1411 (3528_CaseB)
footprint CT_2412 (6032_CaseC)
footprint CT_2916 (7343_CaseD)
footprint CT_2917 (7343H_CaseE)
pins: 1, 2
1 alternate drawing of the same symbol
text: +

## CH340G
designator U?
PartNumber: CH340G
footprint SOP-16N
pins: 1 GND, 2 TXD, 3 RXD, 4 V3, 5 UD+, 6 UD-, 7 XI, 8 XO, 9 CTS, 10 DSR, 11 RI, 12 DCD, 13 TDR, 14 RTS, 15 R232, 16 VCC

## Component_1
designator *

## DC Power Jack
designator J?  (value not drawn)  (graphical)
DC Power Jack. Center Pin 2.5mm. Diameter: 5.7mm; Designer: M Khosravi; Company: Personal; Project Name: Laser; Adding Date: 10/21/2009
footprint DC Power Jack 1 (Power Adaptor Jack)
footprint DC Power Jack 2 (DC Power Jack. Center Pin 2.5mm. Diameter: 5.7mm)
pins: 1 (power), 2 (power), 3 (power)

## Diode
designator D?, comment M7
Rectifiers; Designer: M Khosravi; PartNumber: M7
footprint DIOM4629X24N (Molded Diode, 2-Leads, Body 4/60x2/90mm, IPC Medium Density)
footprint SOD80, LL-34 (Diode, MiniMELF)
footprint Diode 1206
footprint Diode (Footprint not found)
footprint D0603 (DIODE 0603, CDSU101A (Package SOD-523F))
footprint D0805 (DIODE0805, SOD323 (PHILIPS), SC-76 (JEITA), DL-35, MicroMELF)
footprint D1006 (DIODE, CLP1006-2, DSN1006-2, SOD993, 1X0.6mm)
footprint D1206 (SOD123, miniMELF, DO-213AA, MLL34, 320X160D)
footprint D1808 (MELF, DIOD1810, SOD-87)
footprint D1808 (MELF, DIOD1810, SOD-87)
footprint D2010 (MELF Diode, 2-Leads, Body 5.0X2.5mm)
footprint D_AX02_DO35 (DIODE 0.2 INCH SPACING DO-35, 1N4148)
footprint D_AX02_STAND (DIODE 0.2 INCH SPACING DO-35, 1N4148)
footprint D_AX03_1W (DIODE 0.3 INCH SPACING 1W, 1N4001)
footprint D_AX03_1WS (DIODE 0.3 INCH SPACING 1W STAND)
footprint D_AX03_DO35 (DIODE 0.3 INCH SPACING DO35)
footprint D_AX02_STAND (DIODE 0.2 INCH SPACING DO-35, 1N4148)
footprint D_S457 (CASE457-04 Diode, 2-Leads, Body 2x2mm)
footprint D_SMA (SMA Molded Diode, 2-Leads, Body 4.3x2.7mm, SOD-128)
footprint D_SMB (SMB Molded Diode, 2-Leads, Body 4.3x3.5mm)
footprint D_SMC (SMC, Molded Diode, 7.0x6.0mm)
footprint D_SMPA (SMPA DO-221BC, 2-Leads, Body 5.2x2.6mm)
footprint D_SOD80 (SOD-80 MINI-MELF 3.6X1.6mm, LL-34, LL4148)
footprint D_SOD123 (SOD123, 1206D)
footprint D_SOD123F (SOD123, 1206D)
footprint D_SOD123O (SOD123, 1206D pad size Optimized)
footprint D_SOD123PA (PowerDI-123, SOD123, DO-213AA, 1206D)
footprint D_SOD123W (PowerDI-123, SOD123, DO-213AA, 1206D)
footprint D_SOD128 (SOD-128, SOD128, CFP5, 3.8x2.6x1mm)
footprint D_SOD323 (DIODE0805, SOD-323, SC-76, DL-35, 0805 similar size)
footprint D_SOD323A (DIODE0805, SOD323 (PHILIPS), SC-76 (JEITA), DL-35)
footprint D_SOD323HE (MicroSMP DO-219AD, DIODE0805, SOD-323)
footprint D_SOD323HEA (DIODE0805, SOD-323)
footprint D_SOD523 (SOD523 SC-79 Molded Diode, 2-Leads, 1.2x0.8mm)
footprint D_SOD523A (SOD523 SC-79 Molded Diode, 2-Leads, 1.2x0.8mm)
footprint D_SOD923 (SOD-923 2-Leads, Body 0.60x.8mm)
footprint D_SOD923 (SOD-923 2-Leads, Body 0.60x.8mm)
footprint D_SOD923 (SOD-923 2-Leads, Body 0.60x.8mm)
footprint D_SOD993 (X2-DSN1006-2, SOD993, 1X0.6X0.3mm)
footprint D_SOD993 (X2-DSN1006-2, SOD993, 1X0.6X0.3mm)
footprint D_WSON2517 (WSON, DQX 2.5X1.7mm)
pins: 1 A, 2 K

## Diode BAT54
designator D?, comment BAT54
Planar Schottky barrier diodes with an integrated guard ring for stress protection, / encapsulated in a small SOT23 (TO-236AB) Surface-Mounted Device (SMD) plastic / package.; Temperature Range: -x°C to x°C; PartNumber: BAT54
footprint SOT23_L (SOT23, 3-Leads, Body 2.9x1.3mm, Pitch 0.95mm, Lead Span 2.3mm - Reverse Pinning, IPC High Density)
footprint SOT23_N (SOT23, 3-Leads, Body 2.9x1.3mm, Pitch 0.95mm, Lead Span 2.3mm - Reverse Pinning, IPC Medium Density)
pins: 1 A, 2 NC, 3 A

## Diode BAT54A
designator D?, comment BAT54A
Planar Schottky barrier diodes with an integrated guard ring for stress protection, / encapsulated in a small SOT23 (TO-236AB) Surface-Mounted Device (SMD) plastic / package.; Temperature Range: -x°C to x°C; PartNumber: BAT54A
footprint SOT23_L (SOT23, 3-Leads, Body 2.9x1.3mm, Pitch 0.95mm, Lead Span 2.3mm - Reverse Pinning, IPC High Density)
footprint SOT23_N (SOT23, 3-Leads, Body 2.9x1.3mm, Pitch 0.95mm, Lead Span 2.3mm - Reverse Pinning, IPC Medium Density)
pins: 1 A, 2 K, 3 A

## Diode BAT54C
designator D?, comment BAT54C
Planar Schottky barrier diodes with an integrated guard ring for stress protection, / encapsulated in a small SOT23 (TO-236AB) Surface-Mounted Device (SMD) plastic / package.; Temperature Range: -x°C to x°C; PartNumber: BAT54C
footprint SOT23_L (SOT23, 3-Leads, Body 2.9x1.3mm, Pitch 0.95mm, Lead Span 2.3mm - Reverse Pinning, IPC High Density)
footprint SOT23_N (SOT23, 3-Leads, Body 2.9x1.3mm, Pitch 0.95mm, Lead Span 2.3mm - Reverse Pinning, IPC Medium Density)
pins: 1 A, 2 K, 3 A

## Diode BAT54S
designator D?, comment BAT54S
Planar Schottky barrier diodes with an integrated guard ring for stress protection, / encapsulated in a small SOT23 (TO-236AB) Surface-Mounted Device (SMD) plastic / package.; Temperature Range: -x°C to x°C; PartNumber: BAT54S
footprint SOT23_L (SOT23, 3-Leads, Body 2.9x1.3mm, Pitch 0.95mm, Lead Span 2.3mm - Reverse Pinning, IPC High Density)
footprint SOT23_N (SOT23, 3-Leads, Body 2.9x1.3mm, Pitch 0.95mm, Lead Span 2.3mm - Reverse Pinning, IPC Medium Density)
pins: 1 A, 2 K, 3 A

## Diode Bridge
designator D??
Full Wave Diode Bridge; Designer: M Khosravi; Design Date: 1395/11/09; ComponentLink1Description: Datasheet; ComponentLink2Description: Reference; Mounting Technology: Surface Mount\Through-Hole; Status: Unreleased; Part Number: Part Number
footprint Bridge KBJ PACKAGE (KBJ Bridge Rectifiers DESIGNER :ABBAS BASEREH)
footprint Bridge KBL PACKAGE (KBL Bridge Rectifiers DESIGNER :ABBAS BASEREH)
footprint Bridge KBU PACKAGE (KBU Bridge Rectifiers DESIGNER :ABBAS BASEREH)
footprint Bridge WOB PACKAGE (WOB Bridge Rectifiers DESIGNER :ABBAS BASEREH)
footprint Bridge GBU PACKAGE (GBU Bridge Rectifiers DESIGNER :ABBAS BASEREH)
footprint Bridge KBP PACKAGE (KBP Bridge Rectifiers DESIGNER :ABBAS BASEREH)
footprint Bridge DB107 Package (DB107 Bridge Rectifiers DESIGNER :Ali Hafizi)
footprint Bridge Circle Package (Circle Bridge Rectifiers DESIGNER :Ali Hafizi)
footprint Bridge SMD Package (SMD Bridge Rectifiers DESIGNER :Ali Hafizi)
footprint Bridge SMD Package_ (SMD Bridge Rectifiers DESIGNER :Ali Hafizi)
footprint BRIDGE DFS SMD (1A)
footprint Bridge KBU PACKAGE (KBU Bridge Rectifiers DESIGNER :ABBAS BASEREH)
footprint Bridge WOB PACKAGE (WOB Bridge Rectifiers DESIGNER :ABBAS BASEREH)
pins: 1 +, 2 AC, 3 -, 4 AC

## Diode MMBD4148
designator D?, comment MMBD4148 (KA2)
Temperature Range: -x°C to x°C; PartNumber: MMBD4148 (KA2)
footprint SOT23_L (SOT23, 3-Leads, Body 2.9x1.3mm, Pitch 0.95mm, Lead Span 2.3mm - Reverse Pinning, IPC High Density)
pins: 1, 3

## Diode Schottky
designator D?, comment Part Number
Schottky Rectifiers; Temperature Range: -x°C to x°C; PartNumber: Part Number
footprint DO-27 (Vertical) (Designer Abbas Basereh)
footprint DO-214-AC (SMA)
footprint DO-27 , DO-201AD (Designer Abbas Basereh)
footprint DO-41 , DO-204AL (Designer Abbas Basereh)
footprint DO-41 , DO-204AL stand (Designer Abbas Basereh)
footprint DO-214-AA (SMB) (DO-214-AA/SMB; 2 C-Bend Leads; Body 5.3 x 3.6 mm, inc. leads (LxW))
footprint DO-214-AB (SMC) (DO-214-AB/SMC; 2 C-Bend Leads; Body 7.9 x 5.9 mm, inc. leads (LxW))
pins: 1 A, 2 K

## Diode Schottky BYV 26x
designator D?, comment BYV 26x
Ultra-Fast; Temperature Range: -x°C to x°C; PartNumber: BYV 26x
footprint SOD-57 (Diode)
pins: 1 A, 2 K

## Diode Schottky BYV 08800
designator D?, comment BYV 08800
Fast Schottky; Temperature Range: -x°C to x°C; PartNumber: BYV 08800
footprint TO-220AC (TO, Thru-Hole, Vertical, Heatsink Mounted; 3 In-Line Leads (1 Absent); Pitch 2.54 mm)
pins: 1 A, 2 K

## Diode Schottky MBR xxyyy
designator D?, comment MBR xxyyy
Shotky; Temperature Range: -x°C to x°C; PartNumber: MBR xxyyy
footprint TO-220 AB S (Epoxy meets UL94, V0-Design:Abbas Basereh)
footprint TO-247 (SIP with Mounting Hole; 3 Leads; Body 20 x 15.6 x 5 mm (typ); Pitch 5.45 mm)
footprint TO-220 AB (Epoxy meets UL94, V0-Design:Abbas Basereh)
pins: 1, 2, 3

## Diode Schottky PMEG3050EP
designator D?, comment PMEG3050EP
Low VF Schottky barrier rectifier 30 V, 5 A; SMD Code: PMEG3050EP,115; Specification: PMEG3050EP Low VF Schottky barrier rectifier 30 V, 5 A; Temperature Range: -55°C to 150°C; Package: SOD128; PartNumber: PMEG3050EP
footprint SOD128
pins: 1 A, 2 K

## Diode Schottky SS14
designator D?, comment SS14  (value not drawn)
Schottky rectifier
footprint DIOM4629X24N (Molded Diode, 2-Leads, Body 4/60x2/90mm, IPC Medium Density)
footprint SOD80, LL-34 (Diode, MiniMELF)
pins: 1, 2

## Diode TVS
designator D?
TVS Diode; PartNumber: *
footprint DO-214AB(SMC) (Molded Diode, 2-Leads, Body 6/85x5/90mm, IPC Medium Density DESIGNER ABBAS BASEREH)
pins: 1, 2

## Diode TVS PSM712
designator U?, comment PSM712
600 WATT TVS ARRAY-ASYMMETRICAL DATA LINE PROTECTOR; Temperature Range: -x°C to x°C; PartNumber: PSM712
footprint SOT23_L (SOT23, 3-Leads, Body 2.9x1.3mm, Pitch 0.95mm, Lead Span 2.3mm - Reverse Pinning, IPC High Density)
footprint SOT23_N (SOT23, 3-Leads, Body 2.9x1.3mm, Pitch 0.95mm, Lead Span 2.3mm - Reverse Pinning, IPC Medium Density)
footprint Model Name (Footprint not found)
footprint D0603 (DIODE 0603, CDSU101A (Package SOD-523F))
pins: 1 A, 2 K, 3 A

## Diode TVS SMAJ
designator D?, comment SMAJ24A
400W Surface Mount Transient Voltage Supressors; SMD Code: BZ; Specification: SMAJ24A400W Surface Mount Transient Voltage Supressors Diode; Temperature Range: -65°C to 150°C; Package: DO-214AC (SMA); Power: 400W; PartNumber: SMAJ24A
footprint DO-214-AC (SMA)
footprint Model Name (Footprint not found)
footprint D0603 (DIODE 0603, CDSU101A (Package SOD-523F))
pins: 1, 2

## Diode TVS SMBJ
designator D?, comment SMBJ24A
600W Surface Mount Transient Voltage Supressors; SMD Code: LZ; Specification: SMBJ24A600W Surface Mount Transient Voltage Supressors Diode; Temperature Range: -65°C to 150°C; Package: DO-214-AA (SMB); Power: 600W; PartNumber: SMBJ24A
footprint DO-214-AA (SMB) (DO-214-AA/SMB; 2 C-Bend Leads; Body 5.3 x 3.6 mm, inc. leads (LxW))
footprint Model Name (Footprint not found)
footprint D0603 (DIODE 0603, CDSU101A (Package SOD-523F))
pins: 1, 2

## Diode TVS SMCJ
designator D?, comment SMCJ24A
400W Surface Mount Transient Voltage Supressors; SMD Code: GEZ; Power: 1500W; Specification: SMCJ24A1500W Surface Mount Transient Voltage Supressors Diode; Temperature Range: -65°C to 150°C; Package: DO-214-AB (SMC); PartNumber: SMCJ24A
footprint DO-214-AB (SMC) (DO-214-AB/SMC; 2 C-Bend Leads; Body 7.9 x 5.9 mm, inc. leads (LxW))
footprint Model Name (Footprint not found)
footprint D0603 (DIODE 0603, CDSU101A (Package SOD-523F))
pins: 1, 2

## Diode TVS SMDJ
designator D?, comment SMDJ24A
400W Surface Mount Transient Voltage Supressors; SMD Code: PEZ; Power: 3000W; Specification: SMDJ24A3000W Surface Mount Transient Voltage Supressors Diode; Temperature Range: -65°C to 150°C; Package: DO-214-AB (SMC); PartNumber: SMDJ24A
footprint DO-214-AB (SMC) (DO-214-AB/SMC; 2 C-Bend Leads; Body 7.9 x 5.9 mm, inc. leads (LxW))
footprint Model Name (Footprint not found)
footprint D0603 (DIODE 0603, CDSU101A (Package SOD-523F))
pins: 1, 2

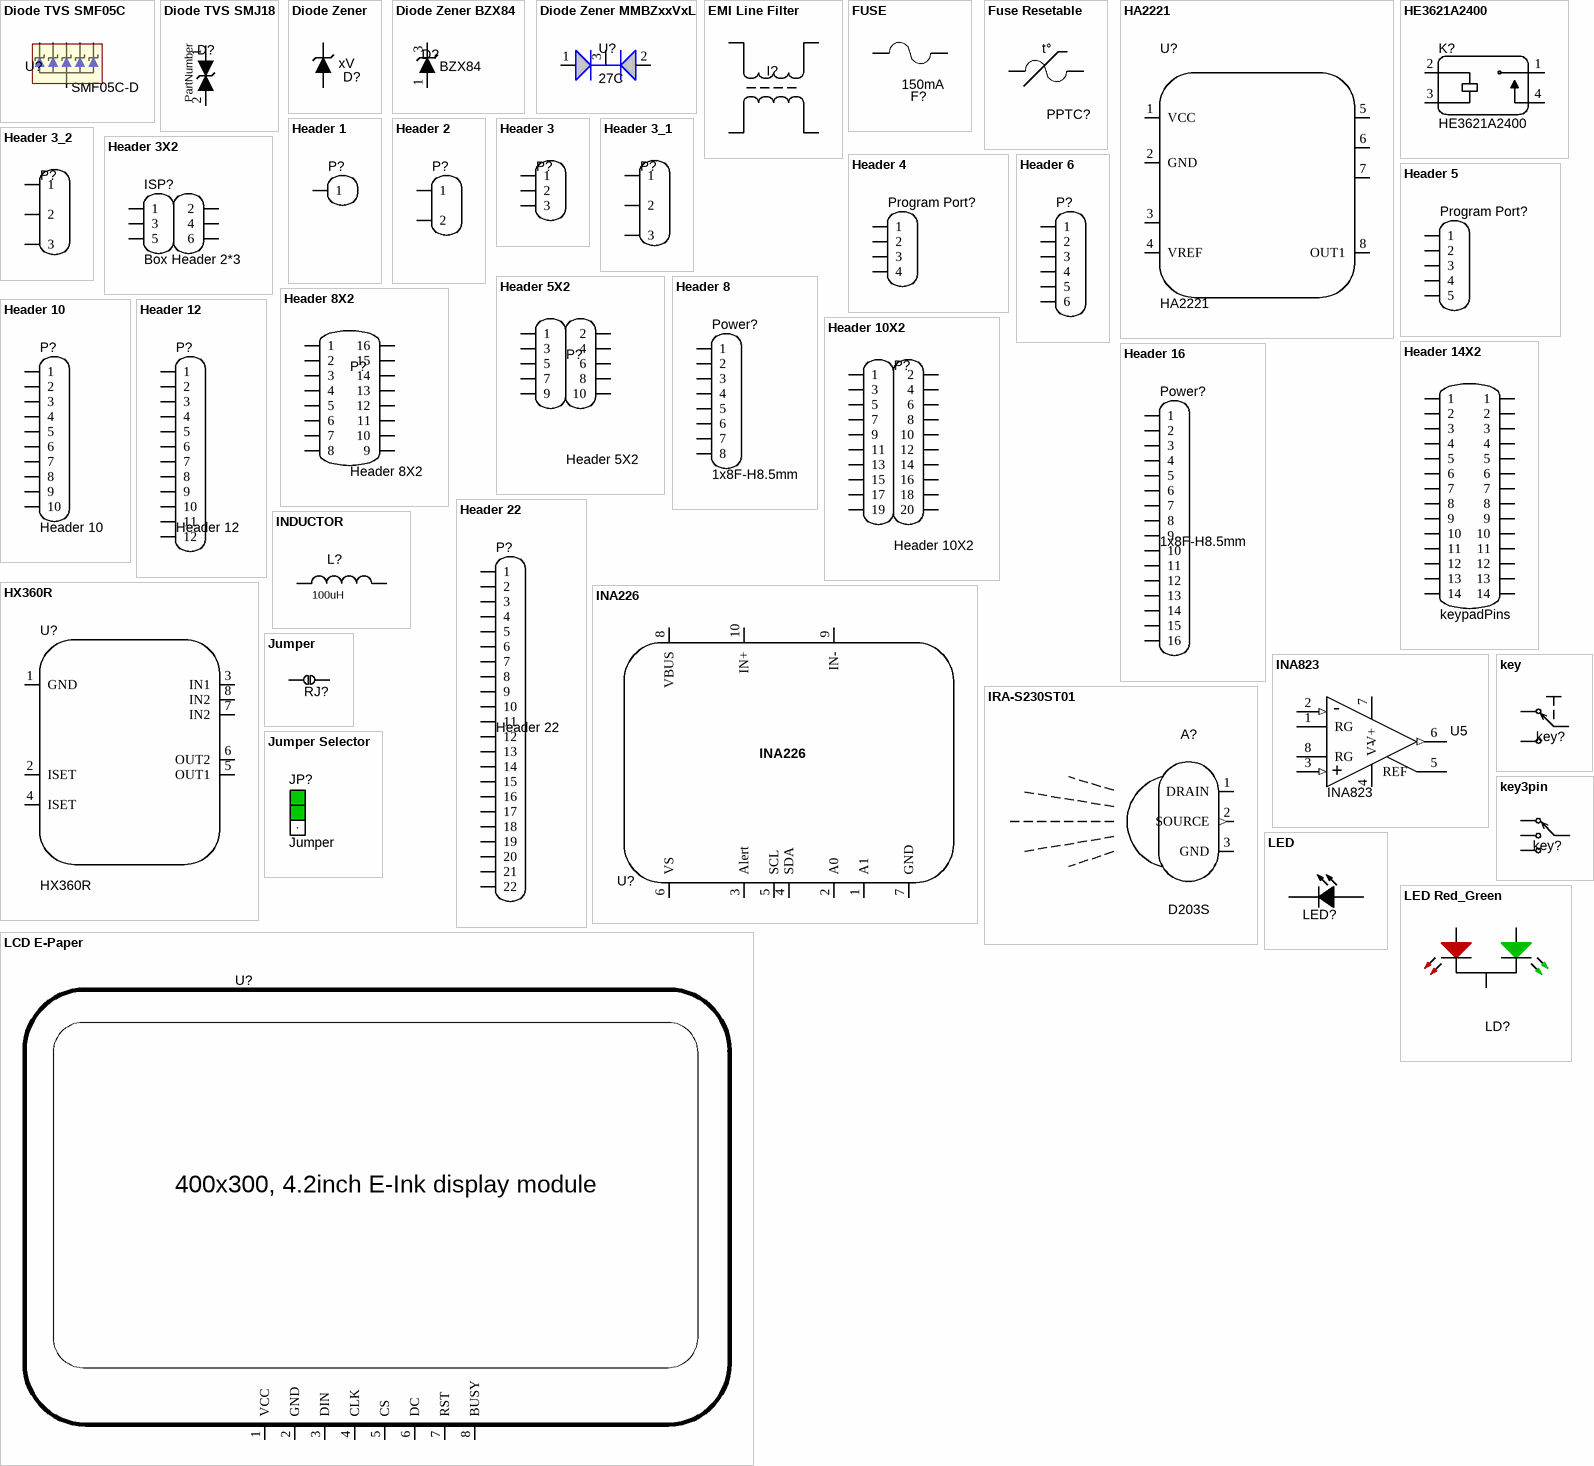
[diagram p3: symbols Diode TVS SMF05C to LED Red_Green]

## Diode TVS SMF05C
designator U?, comment SMF05C-D
5 TVS Diode-5.0 V; Temperature Range: -x°C to x°C; PartNumber: SMF05C-D
footprint SOT323
footprint Model Name (Footprint not found)
footprint D0603 (DIODE 0603, CDSU101A (Package SOD-523F))
pins: 1, 2, 3, 4, 5, 6

## Diode TVS SMJ18
designator D?, comment PartNumber
TVS Diode; Temperature Range: -x°C to x°C; PartNumber: PartNumber
footprint DO-214-AA (SMB) (DO-214-AA/SMB; 2 C-Bend Leads; Body 5.3 x 3.6 mm, inc. leads (LxW))
footprint DO-214-AB (SMC) (DO-214-AB/SMC; 2 C-Bend Leads; Body 7.9 x 5.9 mm, inc. leads (LxW))
footprint DO-214-AC (SMA)
footprint DO-41 , DO-204AL (Designer Abbas Basereh)
footprint DO-41 , DO-204AL stand (Designer Abbas Basereh)
footprint SOD-323 (SOD-323; 2 Leads; Body 1.8 x 1.35 mm, (LxW))
footprint SOD-123 (SOD-123; 2 Leads; Body 2.7 x 1.6 mm, (LxW))
footprint SOD323F
footprint Model Name (Footprint not found)
footprint D0603 (DIODE 0603, CDSU101A (Package SOD-523F))
pins: 1, 2

## Diode Zener
designator D?, comment xV
General Diode Zener; Temperature Range: -x°C to x°C; PartNumber: xV
footprint DO-35 (Diode)
footprint Diode 1W
footprint Diode 1W Stand
footprint DO-213-AB (MELF) (Metal Electrode Face (MELF) Diode; Body 5 x 2.5 mm (LxDia))
footprint SOD-80,LL-34 (Mini MELF) (Diode, MiniMELF)
footprint SOD323F
footprint SOT23_N (SOT23, 3-Leads, Body 2.9x1.3mm, Pitch 0.95mm, Lead Span 2.3mm - Reverse Pinning, IPC Medium Density); pin to pad 2>3
footprint SOD-123 (SOD-123; 2 Leads; Body 2.7 x 1.6 mm, (LxW))
footprint DO 35 (Diode)
footprint Model Name (Footprint not found)
footprint D0603 (DIODE 0603, CDSU101A (Package SOD-523F))
pins: 1, 2

## Diode Zener BZX84
designator D?, comment Part Number: BZX84  (hidden comment: BZX84C5V1 5.1 V)
Low-power voltage regulator diodes; SMD Code: Z2W; Specification: BZX84C5V1 Low-power voltage regulator diodes; Voltage: 5.1 V; Tolerance: ±5%; Temperature Range: -55°C to 150°C; Package: SOT23 (TO-236AB); PartNumber: BZX84C5V1
footprint SOT23_L (SOT23, 3-Leads, Body 2.9x1.3mm, Pitch 0.95mm, Lead Span 2.3mm - Reverse Pinning, IPC High Density)
footprint Model Name (Footprint not found)
footprint D0603 (DIODE 0603, CDSU101A (Package SOD-523F))
pins: 1 A, 3 K

## Diode Zener MMBZxxVxL
designator U?, comment 27C
Zener Diodes, 40 Watt Peak / Power; PartNumber: 27C; Temperature Range: -x°C to x°C
footprint SOT23_N (SOT23, 3-Leads, Body 2.9x1.3mm, Pitch 0.95mm, Lead Span 2.3mm - Reverse Pinning, IPC Medium Density)
footprint Model Name (Footprint not found)
footprint D0603 (DIODE 0603, CDSU101A (Package SOD-523F))
pins: 1, 2, 3

## EMI Line Filter
designator I?  (value not drawn)
footprint EMI
footprint ACM2012 (Common Mode Chokes TDK ACM2012)
footprint ELF2220 (NFM46P11 5.7X5.00mm, NFM2220)
footprint FIL_4_1206 (transformer LINE FILTER, 4-Leads, Body 3.2x1.6mm)
pins: 1, 2, 3, 4

## FUSE
designator F?, comment 150mA
Fuses; Designer: M Khosravi; Value: 150mA
footprint 1206 FUSE (Fast Acting Smd 1206 non-Resettable Fuse Chip For Pcb Board)
pins: 1, 2

## Fuse Resetable
designator PPTC?
PPTC  Resetable Fuse; Designer: M Khosravi
footprint 1206 FUSE (Fast Acting Smd 1206 non-Resettable Fuse Chip For Pcb Board)
pins: 1, 2
text: t°

## HA2221
designator U?
LED Driver
pins: 1 VCC, 2 GND, 3, 4 VREF, 5, 6, 7, 8 OUT1

## HE3621A2400
designator K?
HE3600 Series SPST 0.5 A 24 V Non Latching Through Hole Miniature S.I.L. Relay; MF: Littelfuse; MP: HE3621A2400; Purchase-URL: https://pricing.snapeda.com/search/part/HE3621A2400/?ref=eda; Price: None; Availability: Good; Package: None; SnapEDA_Link: https://www.snapeda.com/parts/HE3621A2400/Littelfuse/view-part/454540/?ref=snap; Value: *
footprint RELAY_HE3621A2400
pins: 1 COM, 2 COIL1, 3 COIL2, 4 NO

## Header 1
designator P?
footprint HDR1X2 (Connector; Header; 2 Position)
signal-integrity model Connector
footprint 7474966 (Mounting Tabs & Tubular Cable Lugs)
pins: 1

## Header 2
designator P?
footprint HDR1X2 (Connector; Header; 2 Position)
signal-integrity model Connector
pins: 1, 2

## Header 3
designator P?, comment P1  (value not drawn)
Header, 3-Pin; LatestRevisionDate: 17-Jul-2002; LatestRevisionNote: Re-released for DXP Platform.; Publisher: Altium Limited
footprint HDR1X3 (Footprint not found)
signal-integrity model Connector
pins: 1, 2, 3

## Header 3_1
designator P?, comment P1  (value not drawn)
Header, 3-Pin; LatestRevisionDate: 17-Jul-2002; LatestRevisionNote: Re-released for DXP Platform.; Publisher: Altium Limited
footprint HDR1X3 (Footprint not found)
signal-integrity model Connector
pins: 1, 2, 3

## Header 3_2
designator P?, comment P1  (value not drawn)
Header, 3-Pin; LatestRevisionDate: 17-Jul-2002; LatestRevisionNote: Re-released for DXP Platform.; Publisher: Altium Limited
footprint HDR1X3 (Footprint not found)
signal-integrity model Connector
pins: 1, 2, 3

## Header 3X2
designator ISP?, comment Box Header 2*3
LatestRevisionDate: 17-Jul-2002; LatestRevisionNote: Re-released for DXP Platform.; Publisher: Altium Limited
footprint AVR-ISP (Footprint not found)
signal-integrity model Connector
pins: 1, 2, 3, 4, 5, 6

## Header 4
designator Program Port?, comment Program  (value not drawn)
Header, 4-Pin; LatestRevisionDate: 17-Jul-2002; LatestRevisionNote: Re-released for DXP Platform.; Publisher: Altium Limited
signal-integrity model Connector
pins: 1, 2, 3, 4

## Header 5
designator Program Port?, comment Program  (value not drawn)
Header, 5-Pin; LatestRevisionDate: 17-Jul-2002; LatestRevisionNote: Re-released for DXP Platform.; Publisher: Altium Limited
footprint HDR1X5 (Connector; Header; 5 Position)
signal-integrity model Connector
pins: 1, 2, 3, 4, 5

## Header 5X2
designator P?
Header, 5-Pin, Dual row; LatestRevisionDate: 17-Jul-2002; LatestRevisionNote: Re-released for DXP Platform.; Publisher: Altium Limited
footprint HDR2X5 (Connector; Header; 5x2 Position)
signal-integrity model Connector
pins: 1, 2, 3, 4, 5, 6, 7, 8, 9, 10

## Header 6
designator P?  (value not drawn)
Header, 6-Pin; LatestRevisionDate: 17-Jul-2002; LatestRevisionNote: Re-released for DXP Platform.; Publisher: Altium Limited
footprint My_1X06
signal-integrity model Connector
pins: 1, 2, 3, 4, 5, 6

## Header 8
designator Power?, comment 1x8F-H8.5mm
Header, 8-Pin; LatestRevisionDate: 17-Jul-2002; LatestRevisionNote: Re-released for DXP Platform.; Publisher: Altium Limited; Value: 1x8F-H8.5mm
footprint HDR1X8 (Connector; Header; 8 Position)
signal-integrity model Connector
pins: 1, 2, 3, 4, 5, 6, 7, 8

## Header 8X2
designator P?
Header, 8-Pin, Dual row; LatestRevisionDate: 17-Jul-2002; LatestRevisionNote: Re-released for DXP Platform.; Publisher: Altium Limited
footprint HDR2X5 (Connector; Header; 5x2 Position)
signal-integrity model Connector
pins: 1, 2, 3, 4, 5, 6, 7, 8, 9, 10, 11, 12, 13, 14, 15, 16

## Header 10
designator P?
Header, 10-Pin; LatestRevisionDate: 17-Jul-2002; LatestRevisionNote: Re-released for DXP Platform.; Publisher: Altium Limited
footprint HDR1X10 (Connector; Header; 10 Position)
signal-integrity model Connector
pins: 1, 2, 3, 4, 5, 6, 7, 8, 9, 10

## Header 10X2
designator P?
Header, 10-Pin, Dual row,100Mil,21mmHeight; LatestRevisionDate: 17-Jul-2002; LatestRevisionNote: Re-released for DXP Platform.; Publisher: Altium Limited
footprint HDR2X10 (Connector; Header; 10x2 Position)
signal-integrity model Connector
pins: 1, 2, 3, 4, 5, 6, 7, 8, 9, 10, 11, 12, 13, 14, 15, 16, 17, 18, 19, 20

## Header 12
designator P?
Header, 12-Pin; LatestRevisionDate: 17-Jul-2002; LatestRevisionNote: Re-released for DXP Platform.; Publisher: Altium Limited
pins: 1, 2, 3, 4, 5, 6, 7, 8, 9, 10, 11, 12

## Header 14X2
designator *?, comment keypadPins  (net tie)
footprint 14Pin
footprint 14Pin
footprint 14Pin
pins: 1, 1, 2, 2, 3, 3, 4, 4, 5, 5, 6, 6, 7, 7, 8, 8, 9, 9, 10, 10, 11, 11, 12, 12, 13, 13, 14, 14

## Header 16
designator Power?, comment 1x8F-H8.5mm
16 pin; LatestRevisionDate: 17-Jul-2002; LatestRevisionNote: Re-released for DXP Platform.; Publisher: Altium Limited; Value: 1x8F-H8.5mm
footprint HDR1X8 (Connector; Header; 8 Position)
signal-integrity model Connector
pins: 1, 2, 3, 4, 5, 6, 7, 8, 9, 10, 11, 12, 13, 14, 15, 16

## Header 22
designator P?
Header, 22-Pin; LatestRevisionDate: 17-Jul-2002; LatestRevisionNote: Re-released for DXP Platform.; Publisher: Altium Limited
signal-integrity model Connector
pins: 1, 2, 3, 4, 5, 6, 7, 8, 9, 10, 11, 12, 13, 14, 15, 16, 17, 18, 19, 20, 21, 22

## HX360R
designator U?
LEDDRIVER / supply current / 300MA
pins: 1 GND, 2 ISET, 3 IN1, 4 ISET, 5 OUT1, 6 OUT2, 7 IN2, 8 IN2

## INA226
designator U?  (value not drawn)
Current-Limit Switch and D+/D- ESD Protection for Automotive USB Host Ports; Temperature Range: -x°C to x°C; PartNumber: INA226
footprint VSSOP 10
pins: 1 A1, 2 A0, 3 Alert, 4 SDA, 5 SCL, 6 VS, 7 GND, 8 VBUS, 9 IN-, 10 IN+

## INA823
designator U5
Precision, Low-Power, Wide-Supply (2.7-V to 36-V) Instrumentation Amplifier; Temperature Range: -x°C to x°C; Parameter 1: *; PartNumber: INA823
footprint SOIC 8-3.9mm (SOIC, 8-Leads, Body 4.9x3.9mm, Pitch 1.27mm, IPC Medium Density)
footprint VSSOP 8 (SOP50P310X90-8N)
pins: 1 RG, 2 IN- (in), 3 IN+ (in), 4 V- (power), 5 REF, 6 OUT (out), 7 V+ (power), 8 RG
text: -; +

## INDUCTOR
designator L?, comment 100uH
TOTAL INDUCTOR SMD/DIP  PACK; Designer: M Khosravi; Value: 100uH
footprint IND0201 (Chip Inductor, 2-Leads, Body 0/60x0/30mm, IPC Medium Density DESIGNER:ABBAS BASEREH)
footprint IND0402 (Chip Inductor, 2-Leads, Body 1/00x0/50mm, IPC Medium Density DESIGNER:ABBAS BASEREH)
footprint IND0603 (Chip Inductor, 2-Leads, Body 1/60x0/80mm, IPC Medium Density DESIGNER:ABBAS BASEREH)
footprint IND0805 (Chip Inductor, 2-Leads, Body 2/00x1/25mm, IPC Medium Density DESIGNER:ABBAS BASEREH)
footprint IND1206 (Chip Inductor, 2-Leads, Body 3/20x1/60mm, IPC Medium Density DESIGNER:ABBAS BASEREH)
footprint IND1210 (Chip Inductor, 2-Leads, Body 3/20x2/50mm, IPC Medium Density DESIGNER:ABBAS BASEREH)
footprint IND2512 (Chip Inductor, 2-Leads, Body 6/40x3/20mm, IPC Medium Density DESIGNER:ABBAS BASEREH)
footprint IND1812 (Chip Inductor, 2-Leads, Body 4/50x3/20mm, IPC Medium Density DESIGNER:ABBAS BASEREH)
signal-integrity model IND SMD (INDUCTOR SMD PACK)
footprint Inductor 10x12 (200 mils) (POWER INDUCTOR 10x12 (200 mils) DESIGNER ABBAS BASEREH)
footprint CDRH74
footprint CDRH127
footprint Inductor SMD 3x3.2mm (Inductor 4.7µH SMD 3x3.2mm)
footprint LX1
pins: 1, 2

## IRA-S230ST01
designator A?, comment D203S
Sensor PIR; MF: Murata; MP: IRA-S230ST01; SnapEDA_Link: https://www.snapeda.com/parts/IRA-S230ST01/Murata/view-part/4970188/?ref=snap; Availability: Warning; Price: None; Package: Radial-3 Murata; DigiKey-Purchase-URL: https://snapeda.com/shop?store=DigiKey&id=4970188; Value: *; Mouser-Purchase-URL: https://snapeda.com/shop?store=Mouser&id=4970188
footprint TO254P940H490-3
pins: 1 DRAIN (power), 2 SOURCE (out), 3 GND (power)

## Jumper
designator RJ?  (value not drawn)
0R
footprint Jumper 4mm (Designer Abbas Basereh)
footprint Jumper 5mm (Designer Abbas Basereh)
footprint Jumper 6mm (Designer Abbas Basereh)
footprint Jumper 10mm (Designer Abbas Basereh)
footprint Jumper Selector
footprint Jumper Small - 2.54 - Black (Designer Abbas Basereh)
footprint Jumper Small - 2.54 - BLUE
footprint Jumper Small - 2.54 - GRAY
footprint Jumper Small - 2.54 - GRAY - Open
footprint Jumper Small - 2.54 - Green (Designer Abbas Basereh)
footprint Jumper Small - 2.54 - RED
footprint Jumper SMD - single
footprint Jumper SMD - Small
footprint Power Ground Jumper
footprint jp-0805
footprint J5MM (5.08 mm (200mil) Jumper wire)
footprint Model Name (Footprint not found)
footprint J7P6MM (7.62 mm (300 mil) Jumper wire)
footprint J10MM (10.16 mm (400 mil) Jumper wire)
footprint J15MM (15.24 mm (600 mil) Jumper wire)
footprint J20MM (20.32 mm (800 mil) Jumper wire)
footprint J0805A (CHIP RESISTOR 1/8 WATT ,2.0X1.3mm, 0805, for PCBA)
footprint J1206 (CHIP RESISTOR 1/4 WATT, Body 3.2x1.6mm,1206)
footprint JP_2 (Jumper Header 2.54mm Pitch, Vertical)
footprint JP_2R (Jumper Header 2.54mm Pitch, Horizontal)
pins: 1, 2

## Jumper Selector
designator JP?, comment Jumper
Jumper Selector
footprint jumper selector
footprint Jumper Selector SMD
footprint Model Name (Footprint not found)
footprint Jumper Selector SMD
footprint Jumper Selector
pins: 1, 2, 3

## key
designator key?  (value not drawn)
footprint Switch - Push to On
footprint SW-PB
pins: 1, 2, 2

## key3pin
designator key?  (value not drawn)
key
footprint Switch - Push to On
footprint SW-PB
pins: 1, 1, 2, 2

## LCD E-Paper
designator U?
pins: 1 VCC, 2 GND, 3 DIN, 4 CLK, 5 CS, 6 DC, 7 RST, 8 BUSY
text: 400x300, 4.2inch E-Ink display module

## LED
designator LED?, comment RED  (value not drawn)
SMD LED; color: RED
footprint LED 1206
pins: 1, 2